# Altium footprint library RKJXT1F42001.PcbLib: 1 footprints
Each footprint in its own frame and in the unit in brackets; x right, y up, seen from the top. Pads: shape width x height; smd on the part's side, far side on the other; paste and mask are expansions set on the pad; w line width, h text height; cw(c..) or ccw(c..) is an arc to the next point about the centre after c.
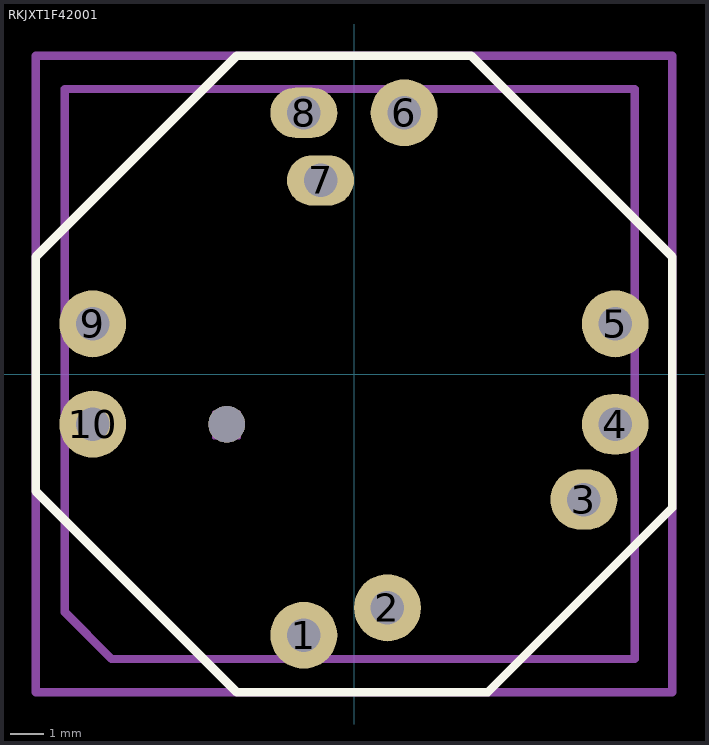
[diagram p0: the footprint, top view; thin cyan lines are the x and y axes]

## RKJXT1F42001 [mm]
pads (11):
  round 2 hole 1: 1(-1.5,-7.8) 2(1,-6.98) 5(7.8,1.5) 6(1.5,7.8) 9(-7.8,1.5) 10(-7.8,-1.5)
  oval 2x1.8 hole 1: 3(6.86,-3.75) 4(7.8,-1.5)
  oval 2x1.5 hole 1: 7(-1,5.78) 8(-1.5,7.8)
  round 1.1 hole 1.1 unplated: ""(-3.8,-1.5)
Top Overlay:
  lines w0.25: -3.5,-9.5 3,-9.5 4,-9.5 7,-6.5 9.5,-4 9.5,-2.5 9.5,3 ; -3.5,9.5 3.5,9.5
  lines w0.254: -3.5,-9.5 -9.5,-3.5 -9.5,3.5 -3.5,9.5 ; 9.5,2.5 9.5,3.5 3.5,9.5 ; 3.5,9.5 3.5,9.5
Mechanical 3:
  lines w0.25: -8.636,-7.112 -7.239,-8.509 8.382,-8.509 8.382,8.509 -8.636,8.509 -8.636,-7.112
Mechanical 5:
  lines w0.1: -8.509,-2.159 -7.112,-2.159 -7.112,-0.889 -8.509,-0.889 -8.509,-2.159 ; -8.509,0.889 -7.112,0.889 -7.112,2.159 -8.509,2.159 -8.509,0.889 ; -4.191,-1.905 -4.191,-1.143 -3.429,-1.143 -3.429,-1.905 -4.191,-1.905
Mechanical 7:
  lines w0.25: -9.5,-9.5 9.5,-9.5 9.5,9.5 -9.5,9.5 -9.5,-9.5
Mechanical 9:
  text "'.Designator'" at -5.817,1.507 h1.02
3D body "RKJXT1F42001.STEP": height 17.4, standoff -3.22, extent -8.55,-8.6 8.65,8.6
3D body: height 17.4, standoff 0, extent -9.5,-9.5 9.5,9.5